# EAGLE library part DUALROW-SMD-D-8X2 (library PonLib)
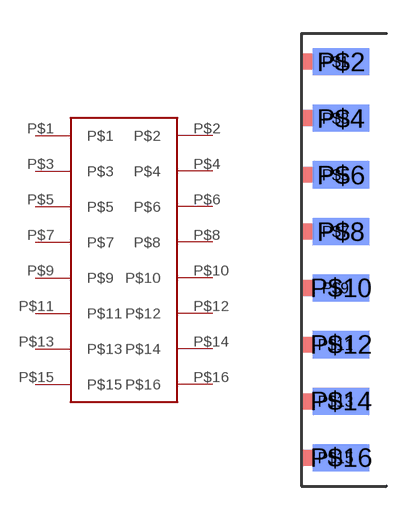
[diagram p21: symbol with the pads of DUALROW-SMD-D-8X2; footprint DUALROW-SMD-D-8X2]

Designator prefix -

## DUALROW-SMD-D-8X2  [DUALROW-SMD-D-8X2]
P$1  P$1
P$2  P$2
P$3  P$3
P$4  P$4
P$5  P$5
P$6  P$6
P$7  P$7
P$8  P$8
P$9  P$9
P$10  P$10
P$11  P$11
P$12  P$12
P$13  P$13
P$14  P$14
P$15  P$15
P$16  P$16

## Footprint DUALROW-SMD-D-8X2 (pad centres in mm)
smd 3.048 x 0.711: P$1 1.524,8.89; P$3 1.524,6.35; P$5 1.524,3.81; P$7 1.524,1.27; P$9 1.524,-1.27; P$11 1.524,-3.81; P$13 1.524,-6.35; P$15 1.524,-8.89
smd 2.54 x 1.219 bottom: P$2 1.778,8.89; P$4 1.778,6.35; P$6 1.778,3.81; P$8 1.778,1.27; P$10 1.778,-1.27; P$12 1.778,-3.81; P$14 1.778,-6.35; P$16 1.778,-8.89